# EAGLE library part 690367290676 (library WR-MM)
WR-MM Female SMT Connector with Latch & Polarization Material Properties Insulator Material PA6T Insulator Flammability Rating UL94 V-0 Insulator Color Red Contact Material Phosphor Bronze Contact Plating Matte Tin over Nickel Contact Type Stamped Packaging Properties cULus Approval E323964 Packaging Tape and Reel General Information Operating Temperature -40 °C up to +105 °C Compliance Lead free / RoHS Pitch 2.54 mm Gender Female Electrical Properties Working Voltage 250 V (AC) Withstanding Voltage 500 V (AC) Contact Resistance 10 mΩ RISO 1000 MΩ <https://www.we-online.com/components/media/o33161v209%20Family-WR-MM-69036729xx76.jpg> Details see: www.we-online.com/en/components/products/MM_1_27_SMT_FEMALE_CONNECTOR_WITH_LATCH_AND_POLARIZATION_69036729XX76_2 <www.we-online.com/catalog/MM_1_27_SMT_FEMALE_CONNECTOR_WITH_LATCH_AND_POLARIZATION_69036729XX76_2/?utm_source=eagle_model&utm_medium=description_link&utm_campaign=eisos_eagle> Updated by Ella 2025-02-28 2025 (C) Würth Elektronik
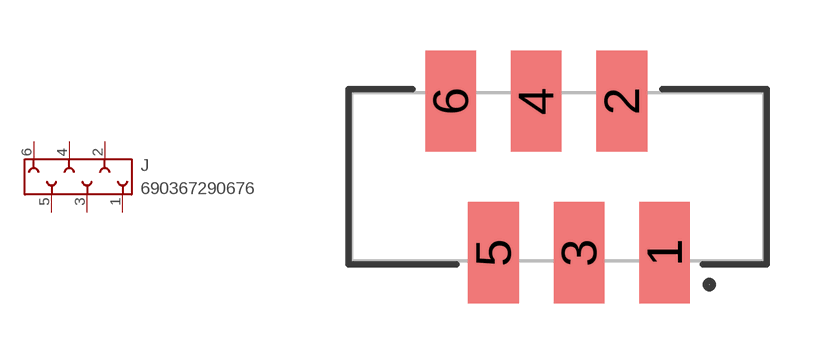
[diagram p63: symbol with the pads of 690367290676; footprint 690367290676]

Designator prefix J

## 690367290676 (DATASHEET-URL: https://www.we-online.com/redexpert/spec/690367290676?ae; GENDER: Female; IR: 1.5A; PACKAGING: Tape and Reel; PART-NUMBER: 690367290676; PINS: 6; PITCH: 2.54; TYPE: Straight; VALUE: 690367290676)  [690367290676]
1  1  pas
2  2  pas
3  3  pas
4  4  pas
5  5  pas
6  6  pas

## Footprint 690367290676 (pad centres in mm)
WR-MM Female SMT Connector with Latch & Polarization, 6 pins
smd 1.5 x 3: 1 3.175,-2.25; 2 1.905,2.25; 3 0.635,-2.25; 4 -0.635,2.25; 5 -1.905,-2.25; 6 -3.175,2.25